# Altium footprint library ESP32-WROOM-32D.PcbLib: 1 footprints
Each footprint in its own frame and in the unit in brackets; x right, y up, seen from the top. Pads: shape width x height; smd on the part's side, far side on the other; paste and mask are expansions set on the pad; w line width, h text height; cw(c..) or ccw(c..) is an arc to the next point about the centre after c.
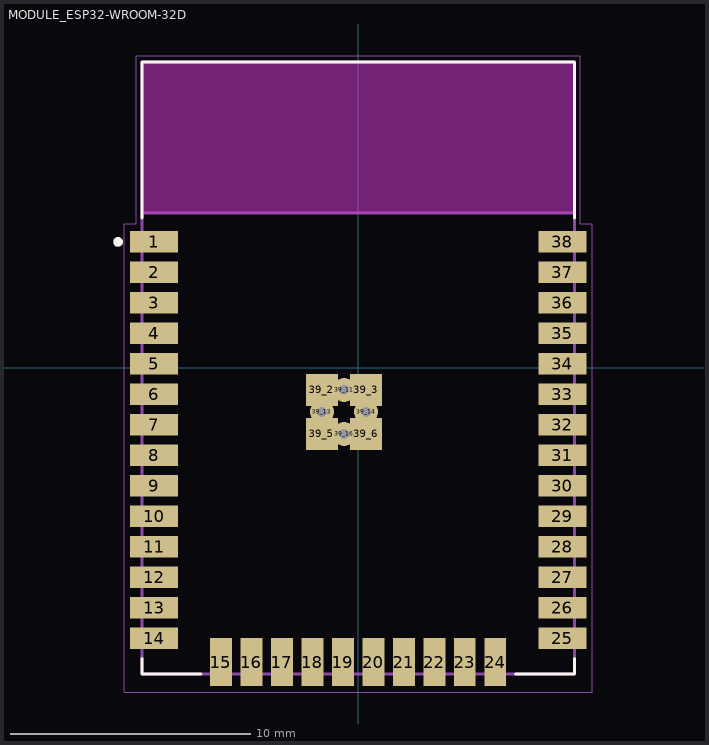
[diagram p0: the footprint, top view; thin cyan lines are the x and y axes]

## MODULE_ESP32-WROOM-32D [mm]
pads (46):
  rect 2x0.9 smd: 1(-8.5,5.26) 2(-8.5,3.99) 3(-8.5,2.72) 4(-8.5,1.45) 5(-8.5,0.18) 6(-8.5,-1.09) 7(-8.5,-2.36) 8(-8.5,-3.63) 9(-8.5,-4.9) 10(-8.5,-6.17) 11(-8.5,-7.44) 12(-8.5,-8.71) 13(-8.5,-9.98) 14(-8.5,-11.25) 25(8.5,-11.25) 26(8.5,-9.98) 27(8.5,-8.71) 28(8.5,-7.44) 29(8.5,-6.17) 30(8.5,-4.9) 31(8.5,-3.63) 32(8.5,-2.36) 33(8.5,-1.09) 34(8.5,0.18) 35(8.5,1.45) 36(8.5,2.72) 37(8.5,3.99) 38(8.5,5.26)
  rect 0.9x2 smd: 15(-5.715,-12.25) 16(-4.445,-12.25) 17(-3.175,-12.25) 18(-1.905,-12.25) 19(-0.635,-12.25) 20(0.635,-12.25) 21(1.905,-12.25) 22(3.175,-12.25) 23(4.445,-12.25) 24(5.715,-12.25)
  rect 1.33x1.33 smd: 39_2(-1.508,-0.913) 39_3(0.327,-0.913) 39_5(-1.508,-2.748) 39_6(0.327,-2.748)
  round 1 hole 0.4: 39_11(-0.59,-0.913) 39_13(-1.508,-1.83) 39_14(0.327,-1.83) 39_16(-0.59,-2.748)
Top Overlay:
  circle w0.2: c-10,5.25 r0.1
  lines w0.127: -9,-12.1 -9,-12.75 -6.55,-12.75 ; -9,6.25 -9,12.75 9,12.75 9,6.25 ; 6.55,-12.75 9,-12.75 9,-12.1
Keep-Out Layer:
  region: 9,6.45 -9,6.45 -9,12.75 9,12.75
  region: 9,6.45 -9,6.45 -9,12.75 9,12.75
Mechanical 13:
  circle w0.2: c-10,5.25 r0.1
  lines w0.127: -9,6.45 -9,-12.75 9,-12.75 9,6.45 ; -9,6.45 -9,12.75 9,12.75 9,6.45 ; -9,6.45 9,6.45
  text "ANTENNA" at -6,9 h1.78
Mechanical 15:
  lines w0.05: -9.75,-13.5 9.75,-13.5 9.75,6 9.25,6 9.25,13 -9.25,13 -9.25,6 -9.75,6 -9.75,-13.5
3D body "ESP-32 .step": height 2.61, standoff -0.1, extent -8.95,-12.7 8.95,12.7